# Altium footprint library ARDUINO_UNO_CH340.PcbLib: 28 footprints (part 1 of 2)
Each footprint in its own frame and in the unit in brackets; x right, y up, seen from the top. Pads: shape width x height; smd on the part's side, far side on the other; paste and mask are expansions set on the pad; w line width, h text height; cw(c..) or ccw(c..) is an arc to the next point about the centre after c.
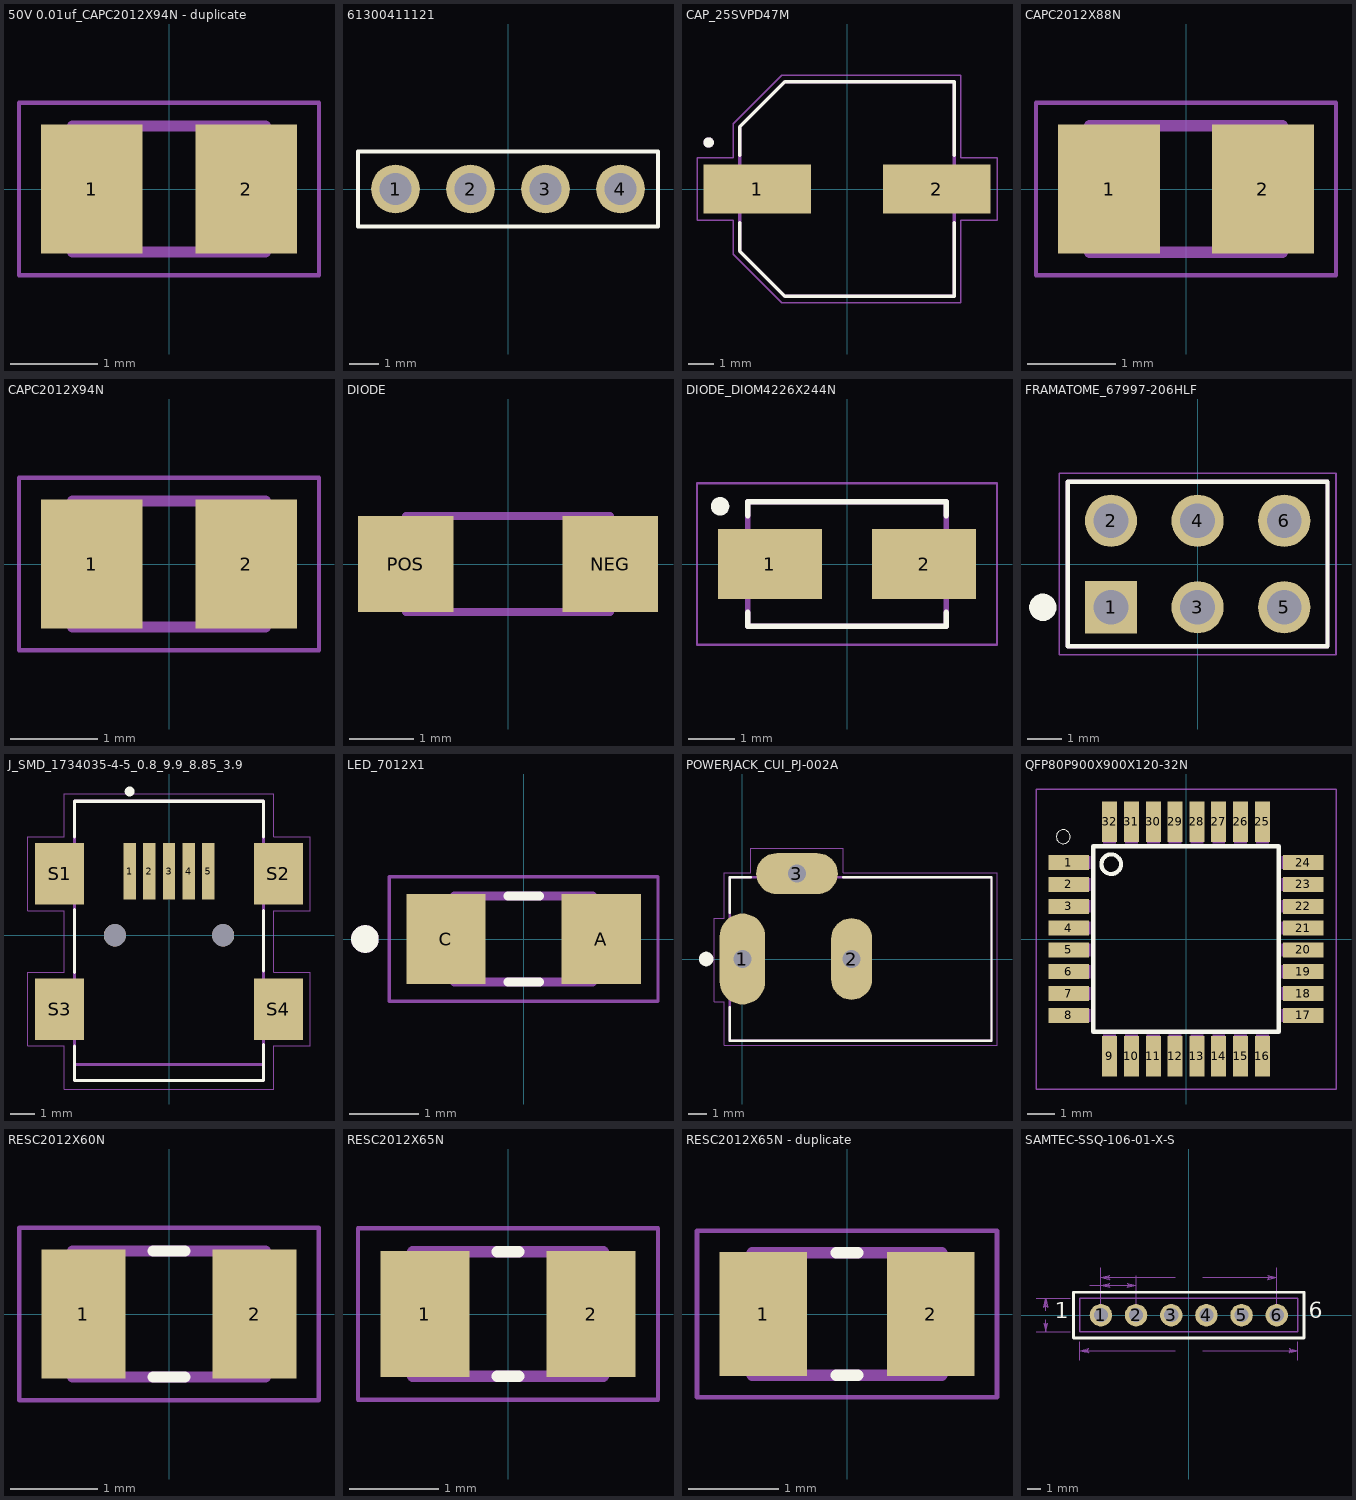
[diagram p0: the footprints below, top view; thin cyan lines are the x and y axes]

## 50V 0.01uf_CAPC2012X94N - duplicate [mm]
pads (2):
  rect 1.16x1.47 smd: 1(-0.88,0) 2(0.88,0)
Mechanical 13:
  lines w0.127: -1.1,-0.72 1.1,-0.72 1.1,0.72 -1.1,0.72 -1.1,-0.72
Mechanical 15:
  lines w0.05: -1.713,-0.983 1.713,-0.983 1.713,0.983 -1.713,0.983 -1.713,-0.983
3D body "08055C103JAZ2A.STEP": height 0.94, standoff 0, extent -1.011,-0.625 0.999,0.625

## 61300411121 [mm]
pads (4):
  round 1.65 hole 1.1: 1(-3.81,0) 2(-1.27,0) 3(1.27,0) 4(3.81,0)
Top Overlay:
  lines w0.127: -5.08,-1.27 -5.08,1.27 5.08,1.27 5.08,-1.27 -5.08,-1.27
3D body "61300411121.step": height 8.05, standoff -3.49, extent -5.009,-1.283 5.151,1.257

## CAP_25SVPD47M [mm]
pads (2):
  rect 4.15x1.9 smd: 1(-3.475,0) 2(3.475,0)
Top Overlay:
  circle w0.2: c-5.35,1.8 r0.1
  lines w0.127: -4.15,-1.3 -4.15,-2.4 -2.4,-4.15 -0.763,-4.15 2.512,-4.15 4.15,-4.15 4.15,-1.3 ; -4.15,1.3 -4.15,2.4 -2.4,4.15 4.15,4.15 4.15,1.3
Mechanical 13:
  circle w0.2: c-5.35,1.8 r0.1
  lines w0.127: -4.15,-2.4 -2.4,-4.15 4.15,-4.15 4.15,4.15 -2.4,4.15 -4.15,2.4 -4.15,-2.4
Mechanical 15:
  lines w0.05: -5.8,-1.2 -4.4,-1.2 -4.4,-2.525 -2.525,-4.4 4.4,-4.4 4.4,-1.2 5.8,-1.2 5.8,1.2 4.4,1.2 4.4,4.4 -2.525,4.4 -4.4,2.525 -4.4,1.2 -5.8,1.2 -5.8,-1.2
3D body "User Library-capacitor size D.STEP": height 5.38, standoff -0.03, extent -3.246,-3.173 3.754,3.427

## CAPC2012X88N [mm]
pads (2):
  rect 1.16x1.47 smd: 1(-0.875,0) 2(0.875,0)
Mechanical 13:
  lines w0.127: -1.1,-0.72 -1.1,0.72 1.1,0.72 1.1,-0.72 -1.1,-0.72
Mechanical 15:
  lines w0.05: -1.708,-0.983 -1.708,0.983 1.708,0.983 1.708,-0.983 -1.708,-0.983
3D body "C0805J104K5RACTU.STEP": height 0.98, standoff -0.02, extent -1.1,-0.73 1.1,0.72

## CAPC2012X94N [mm]
pads (2):
  rect 1.16x1.47 smd: 1(-0.88,0) 2(0.88,0)
Mechanical 13:
  lines w0.127: -1.1,-0.72 1.1,-0.72 1.1,0.72 -1.1,0.72 -1.1,-0.72
Mechanical 15:
  lines w0.05: -1.713,-0.983 1.713,-0.983 1.713,0.983 -1.713,0.983 -1.713,-0.983
3D body "08051A250GAT2A.STEP": height 0.91, standoff -0.03, extent -1.005,-0.625 1.005,0.625

## DIODE [mm]
pads (2):
  rect 1.5x1.5 smd: NEG(1.6,0) POS(-1.6,0)
Mechanical 13:
  lines w0.127: -1.6,-0.75 -1.6,0.75 1.6,0.75 1.6,-0.75 -1.6,-0.75
3D body "CD1206-S01575--3DModel-STEP-317126.STEP": height 0.75, standoff 0, extent -1.584,-0.652 1.416,0.648

## DIODE_DIOM4226X244N [mm]
pads (2):
  rect 2.26x1.51 smd: 1(-1.67,0) 2(1.67,0)
Top Overlay:
  circle w0.2: c-2.75,1.25 r0.1
  lines w0.127: -2.15,-1.05 -2.15,-1.35 2.15,-1.35 2.15,-1.05 ; -2.15,1.05 -2.15,1.35 2.15,1.35 2.15,1.05
Mechanical 13:
  lines w0.127: -2.15,-1.35 -2.15,1.35 2.15,1.35 2.15,-1.35 -2.15,-1.35
Mechanical 15:
  lines w0.05: -3.25,-1.75 -3.25,1.75 3.25,1.75 3.25,-1.75 -3.25,-1.75
3D body "ES1G.STEP": height 2.65, standoff -0.05, extent -2.6,-1.362 2.6,1.362

## FRAMATOME_67997-206HLF [mm]
pads (6):
  rect 1.53x1.53 hole 1.02: 1(-2.54,-1.27)
  round 1.53 hole 1.02: 2(-2.54,1.27) 3(0,-1.27) 4(0,1.27) 5(2.54,-1.27) 6(2.54,1.27)
Top Overlay:
  circle w0.4: c-4.54,-1.27 r0.2
  lines w0.127: -3.81,-2.415 3.81,-2.415 3.81,2.415 -3.81,2.415 -3.81,-2.415
Mechanical 13:
  circle w0.4: c-2.54,-1.27 r0.2
  lines w0.127: -3.81,-2.415 3.81,-2.415 3.81,2.415 -3.81,2.415 -3.81,-2.415
Mechanical 15:
  lines w0.05: -4.06,-2.665 -4.06,2.665 4.06,2.665 4.06,-2.665 -4.06,-2.665
3D body "67997-206HLF--3DModel-STEP-56544.STEP": height 8.39, standoff -3.49, extent -3.81,-2.411 3.81,2.415

## J_SMD_1734035-4-5_0.8_9.9_8.85_3.9 [mm]
pads (11):
  rect 0.5x2.3 smd: 1(-1.6,2.6) 2(-0.8,2.6) 3(0,2.6) 4(0.8,2.6) 5(1.6,2.6)
  rect 2x2.5 smd: S1(-4.45,2.5) S2(4.45,2.5) S3(-4.45,-3) S4(4.45,-3)
  round 0.9 hole 0.9 unplated: ""(-2.2,0) ""(2.2,0)
Top Overlay:
  circle w0.2: c-1.6,5.85 r0.1
  lines w0.127: -3.85,-4.5 -3.85,-5.9 3.85,-5.9 3.85,-4.45 ; -3.85,-1.5 -3.85,1.05 ; -3.85,4 -3.85,5.45 3.85,5.45 3.85,4 ; 3.85,-1.45 3.85,1
Mechanical 13:
  lines w0.127: -3.85,-5.25 3.85,-5.25 ; -3.85,-5.25 -3.85,-5.9 3.85,-5.9 3.85,-5.25 ; -3.85,-5.25 -3.85,5.45 3.85,5.45 3.85,-5.25
  text "PCB EDGE" at -2.659,-5.139 h0.81
Mechanical 15:
  lines w0.05: -5.75,-4.5 -4.25,-4.5 -4.25,-6.25 4.25,-6.25 4.25,-4.5 5.75,-4.5 5.75,-1.5 4.25,-1.5 4.25,1 5.75,1 5.75,4 4.25,4 4.25,5.75 -4.25,5.75 -4.25,4 -5.75,4 -5.75,1 -4.25,1 -4.25,-1.5 -5.75,-1.5 -5.75,-4.5
3D body "1734035-4.step": height 4.1, standoff -0.99, extent -4.989,-5.903 4.911,3.297

## LED_7012X1 [mm]
pads (2):
  rect 1.15x1.3 smd: A(1.125,0) C(-1.125,0)
Top Overlay:
  circle w0.2: c-2.3,0 r0.1
  lines w0.127: -0.23,-0.625 0.23,-0.625 ; -0.23,0.625 0.23,0.625
Mechanical 13:
  circle w0.2: c-2.3,0 r0.1
  lines w0.127: -1,-0.625 -1,0.625 1,0.625 1,-0.625 -1,-0.625
Mechanical 15:
  lines w0.05: -1.95,-0.9 -1.95,0.9 1.95,0.9 1.95,-0.9 -1.95,-0.9
3D body "7012X1--3DModel-STEP-1.STEP": height 0.75, standoff 0.01, extent -1.01,-0.622 0.997,0.622

## POWERJACK_CUI_PJ-002A [mm]
pads (3):
  oval 2.5x5 hole 1 square: 1(0,0)
  oval 2.25x4.5 hole 1 square: 2(6,0)
  oval 4.5x2.25 hole 1 square: 3(3,4.7)
Top Overlay:
  circle w0.4: c-2,0 r0.2
  lines w0.127: -0.7,-2.65 -0.7,-4.5 13.7,-4.5 13.7,4.5 5.55,4.5 ; -0.7,2.55 -0.7,4.5 0.45,4.5
Mechanical 13:
  lines w0.127: -0.7,-4.5 13.7,-4.5 13.7,4.5 -0.7,4.5 -0.7,-4.5
Mechanical 15:
  lines w0.05: -1.55,-2.35 -1.55,2.25 -1,2.25 -1,4.75 0.45,4.75 0.45,6.1 5.55,6.1 5.55,4.75 14,4.75 14,-4.75 -1,-4.75 -1,-2.35 -1.55,-2.35
3D body "pj-002a.stp": height 11, standoff -3.5, extent -0.723,-4.828 13.677,4.572

## QFP80P900X900X120-32N [mm]
pads (32):
  rect 1.5x0.55 smd: 1(-4.3,2.8) 2(-4.3,2) 3(-4.3,1.2) 4(-4.3,0.4) 5(-4.3,-0.4) 6(-4.3,-1.2) 7(-4.3,-2) 8(-4.3,-2.8) 17(4.3,-2.8) 18(4.3,-2) 19(4.3,-1.2) 20(4.3,-0.4) 21(4.3,0.4) 22(4.3,1.2) 23(4.3,2) 24(4.3,2.8)
  rect 0.55x1.5 smd: 9(-2.8,-4.3) 10(-2,-4.3) 11(-1.2,-4.3) 12(-0.4,-4.3) 13(0.4,-4.3) 14(1.2,-4.3) 15(2,-4.3) 16(2.8,-4.3) 25(2.8,4.3) 26(2,4.3) 27(1.2,4.3) 28(0.4,4.3) 29(-0.4,4.3) 30(-1.2,4.3) 31(-2,4.3) 32(-2.8,4.3)
Top Overlay:
  circle w0.152: c-2.743,2.743 r0.359
  circle w0: c-4.5,3.75 r0.254
  lines w0.152: -3.4,-3.4 3.4,-3.4 3.4,3.4 -3.4,3.4 -3.4,-3.4
Mechanical 13:
  region: -3.506,2.572 -4.497,2.572 -4.497,3.029 -3.506,3.029
  region: -3.506,1.775 -4.505,1.775 -4.505,2.229 -3.506,2.229
  region: -3.506,0.972 -4.5,0.972 -4.5,1.429 -3.506,1.429
  region: -3.506,0.172 -4.5,0.172 -4.5,0.629 -3.506,0.629
  region: -3.506,-0.629 -4.503,-0.629 -4.503,-0.171 -3.506,-0.171
  region: -3.506,-1.43 -4.502,-1.43 -4.502,-0.971 -3.506,-0.971
  region: -3.506,-2.231 -4.501,-2.231 -4.501,-1.771 -3.506,-1.771
  region: -3.506,-3.032 -4.501,-3.032 -4.501,-2.571 -3.506,-2.571
  region: -2.571,-4.505 -3.035,-4.505 -3.035,-3.506 -2.571,-3.506
  region: -1.771,-4.5 -2.23,-4.5 -2.23,-3.506 -1.771,-3.506
  region: -0.971,-4.504 -1.431,-4.504 -1.431,-3.506 -0.971,-3.506
  region: -0.171,-4.498 -0.629,-4.498 -0.629,-3.506 -0.171,-3.506
  region: 0.629,-4.502 0.172,-4.502 0.172,-3.506 0.629,-3.506
  region: 1.429,-4.498 0.972,-4.498 0.972,-3.506 1.429,-3.506
  region: 2.229,-4.504 1.774,-4.504 1.774,-3.506 2.229,-3.506
  region: 3.029,-4.503 2.575,-4.503 2.575,-3.506 3.029,-3.506
  region: 4.497,-3.029 3.507,-3.029 3.507,-2.571 4.497,-2.571
  region: 4.497,-2.233 3.513,-2.233 3.513,-1.771 4.497,-1.771
  region: 4.497,-1.431 3.511,-1.431 3.511,-0.971 4.497,-0.971
  region: 4.497,-0.629 3.509,-0.629 3.509,-0.171 4.497,-0.171
  region: 4.497,0.172 3.509,0.172 3.509,0.629 4.497,0.629
  region: 4.497,0.973 3.511,0.973 3.511,1.429 4.497,1.429
  region: 4.497,1.774 3.511,1.774 3.511,2.229 4.497,2.229
  region: 4.497,2.575 3.511,2.575 3.511,3.029 4.497,3.029
  region: 3.029,3.513 2.576,3.513 2.576,4.497 3.029,4.497
  region: 2.229,3.511 1.774,3.511 1.774,4.497 2.229,4.497
  region: 1.429,3.509 0.972,3.509 0.972,4.497 1.429,4.497
  region: 0.629,3.506 0.171,3.506 0.171,4.497 0.629,4.497
  region: -0.171,3.513 -0.63,3.513 -0.63,4.497 -0.171,4.497
  region: -0.971,3.508 -1.43,3.508 -1.43,4.497 -0.971,4.497
  region: -1.771,3.512 -2.233,3.512 -2.233,4.497 -1.771,4.497
  region: -2.571,3.509 -3.032,3.509 -3.032,4.497 -2.571,4.497
Mechanical 15:
  lines w0.05: -5.5,-5.5 5.5,-5.5 5.5,5.5 -5.5,5.5 -5.5,-5.5
3D body "ATmega_AP214.STEP": height 1.01, standoff -0.08, extent -4.421,-4.529 4.574,4.466

## RESC2012X60N [mm]
pads (2):
  rect 0.96x1.47 smd: 1(-0.978,0) 2(0.978,0)
Top Overlay:
  lines w0.127: -0.18,-0.72 0.18,-0.72 ; -0.18,0.72 0.18,0.72
Mechanical 13:
  lines w0.127: -1.1,-0.72 1.1,-0.72 1.1,0.72 -1.1,0.72 -1.1,-0.72
Mechanical 15:
  lines w0.05: -1.708,-0.983 1.708,-0.983 1.708,0.983 -1.708,0.983 -1.708,-0.983
3D body "RP73PF2A499RBTDF.STEP": height 0.61, standoff 0.01, extent -1.007,-0.612 0.993,0.638

## RESC2012X65N [mm]
pads (2):
  rect 1x1.42 smd: 1(-0.935,0) 2(0.935,0)
Top Overlay:
  lines w0.127: -0.12,-0.7 0.12,-0.7 ; -0.12,0.7 0.12,0.7
Mechanical 13:
  lines w0.127: -1.07,-0.7 1.07,-0.7 1.07,0.7 -1.07,0.7 -1.07,-0.7
Mechanical 15:
  lines w0.05: -1.685,-0.962 1.685,-0.962 1.685,0.962 -1.685,0.962 -1.685,-0.962
3D body "CRGCQ0805F10K.STEP": height 0.63, standoff -0.02, extent -0.993,-0.625 1.006,0.625

## RESC2012X65N - duplicate [mm]
pads (2):
  rect 0.97x1.38 smd: 1(-0.93,0) 2(0.93,0)
Top Overlay:
  lines w0.127: -0.12,-0.68 0.12,-0.68 ; -0.12,0.68 0.12,0.68
Mechanical 13:
  lines w0.127: -1.05,-0.68 -1.05,0.68 1.05,0.68 1.05,-0.68 -1.05,-0.68
Mechanical 15:
  lines w0.05: -1.665,-0.925 -1.665,0.925 1.665,0.925 1.665,-0.925 -1.665,-0.925
3D body "PICOSMDC050S-2.STEP": height 0.61, standoff 0.01, extent -0.987,-0.625 1.013,0.625

## SAMTEC-SSQ-106-01-X-S [mm]
pads (6):
  round 1.62 hole 1.02: 1(-6.35,0) 2(-3.81,0) 3(-1.27,0) 4(1.27,0) 5(3.81,0) 6(6.35,0)
Top Overlay:
  lines w0.2: -8.324,-1.657 -8.324,1.657 8.324,1.657 8.324,-1.657 -8.324,-1.657
  text "1" at -9.694,-0.635 h1.97
  text "6" at 8.665,-0.635 h1.97
Top Solder:
  circle w0: c-6.35,0 r0.861
  circle w0: c-3.81,0 r0.861
  circle w0: c-1.27,0 r0.861
  circle w0: c6.35,0 r0.861
  circle w0: c3.81,0 r0.861
  circle w0: c1.27,0 r0.861
Bottom Solder:
  circle w0: c-6.35,0 r0.861
  circle w0: c-3.81,0 r0.861
  circle w0: c-1.27,0 r0.861
  circle w0: c6.35,0 r0.861
  circle w0: c3.81,0 r0.861
  circle w0: c1.27,0 r0.861
Mechanical 16:
  lines w0.1: -7.874,-1.206 -7.874,1.206 -5.08,1.206 -2.54,1.206 0,1.206 2.54,1.206 5.08,1.206 7.874,1.206 7.874,-1.206 5.08,-1.206 2.54,-1.206 0,-1.206 -2.54,-1.206 -5.08,-1.206 -7.874,-1.206 ; -6.744,-0.394 -5.956,-0.394 -5.956,0.394 -6.744,0.394 -6.744,-0.394 ; -4.204,-0.394 -3.416,-0.394 -3.416,0.394 -4.204,0.394 -4.204,-0.394 ; -1.664,-0.394 -0.876,-0.394 -0.876,0.394 -1.664,0.394 -1.664,-0.394 ; 0.876,-0.394 1.664,-0.394 1.664,0.394 0.876,0.394 0.876,-0.394 ; 3.416,-0.394 4.204,-0.394 4.204,0.394 3.416,0.394 3.416,-0.394 ; 5.956,-0.394 6.744,-0.394 6.744,0.394 5.956,0.394 5.956,-0.394
  text "1" at -9.694,-0.635 h1.97
  text "6" at 8.665,-0.635 h1.97
Mechanical 40:
  lines w0: -11.039,-1.206 -8.575,-1.206 ; -11.039,1.206 -8.575,1.206 ; -10.338,-0.318 -10.338,-1.206 ; -10.338,0.318 -10.338,1.206 ; -7.874,-3.261 -7.874,-1.908 ; -7.15,2.159 -6.35,2.159 ; -6.35,2.86 -6.35,0.701 -6.35,3.432 ; -3.81,0.701 -3.81,2.86 ; -0.991,-2.56 -7.874,-2.56 ; -0.991,2.73 -6.35,2.73 ; 0.991,-2.56 7.874,-2.56 ; 0.991,2.73 6.35,2.73 ; 6.35,0.701 6.35,3.432 ; 7.874,-3.261 7.874,-1.908 ; -10.497,-0.572 -10.338,-1.206 ; -10.497,-0.572 -10.338,-0.698 ; -10.497,-0.572 -10.417,-0.635 -10.338,-1.206 ; -10.338,-1.206 -10.179,-0.572 -10.338,-0.698 ; -10.338,-1.206 -10.258,-0.635 -10.338,-0.698 ; -10.338,-1.206 -10.338,-0.698 ; -10.338,0.698 -10.497,0.572 -10.338,1.206 ; -10.338,0.698 -10.179,0.572 ; -10.338,0.698 -10.417,0.635 -10.338,1.206 ; -10.338,0.698 -10.338,1.206 ; -10.338,1.206 -10.179,0.572 ; -10.338,1.206 -10.258,0.635 -10.179,0.572 ; -7.874,-2.56 -7.239,-2.402 ; -7.874,-2.56 -7.239,-2.719 -7.366,-2.56 ; -7.874,-2.56 -7.302,-2.64 -7.366,-2.56 ; -7.874,-2.56 -7.366,-2.56 ; -7.874,-2.56 -7.302,-2.481 -7.239,-2.402 ; -7.366,-2.56 -7.239,-2.402 ; -6.35,2.159 -5.715,2.318 ; -6.35,2.159 -5.715,2 -5.842,2.159 ; -6.35,2.159 -5.778,2.08 -5.842,2.159 ; -6.35,2.159 -5.842,2.159 ; -6.35,2.159 -5.778,2.238 -5.715,2.318 ; -6.35,2.159 -3.81,2.159 ; -6.35,2.73 -5.715,2.889 ; -6.35,2.73 -5.715,2.572 -5.842,2.73 ; -6.35,2.73 -5.778,2.651 -5.842,2.73 ; -6.35,2.73 -5.842,2.73 ; -6.35,2.73 -5.778,2.81 -5.715,2.889 ; -5.842,2.159 -5.715,2.318 ; -5.842,2.73 -5.715,2.889 ; -4.445,2 -3.81,2.159 ; -4.445,2 -4.318,2.159 ; -4.445,2 -4.382,2.08 -3.81,2.159 ; -4.318,2.159 -4.445,2.318 -3.81,2.159 ; -4.318,2.159 -4.382,2.238 -3.81,2.159 ; -4.318,2.159 -3.81,2.159 ; 5.715,2.572 6.35,2.73 ; 5.715,2.572 5.842,2.73 ; 5.715,2.572 5.778,2.651 6.35,2.73 ; 5.842,2.73 5.715,2.889 6.35,2.73 ; 5.842,2.73 5.778,2.81 6.35,2.73 ; 5.842,2.73 6.35,2.73 ; 7.239,-2.719 7.874,-2.56 ; 7.239,-2.719 7.366,-2.56 ; 7.239,-2.719 7.302,-2.64 7.874,-2.56 ; 7.366,-2.56 7.239,-2.402 7.874,-2.56 ; 7.366,-2.56 7.302,-2.481 7.874,-2.56 ; 7.366,-2.56 7.874,-2.56
  text "2.413" at -10.998,-0.127 h0.39
  text "2.540" at -8.661,2.032 h0.39
  text "15.748" at -0.8,-2.687 h0.39
  text "12.700" at -0.8,2.604 h0.39
Mechanical 42:
  lines w0.1: -8.324,-1.657 -8.324,1.657 8.324,1.657 8.324,-1.657 -8.324,-1.657
3D body "User Library-Header_Fem_1X6.step": height 8.51, standoff -3.19, extent -7.857,-1.301 7.883,1.239